# Altium schematic symbol library LIS2DH.SchLib: 1 symbol
Pins are listed as number, name and electrical type; pins without a type are passive.

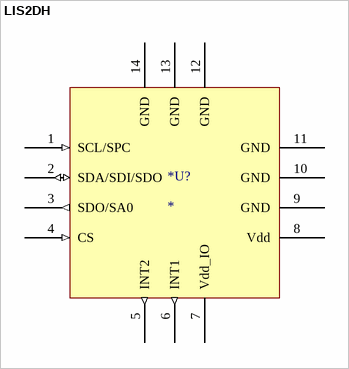
[diagram p0: symbol LIS2DH]

## LIS2DH
designator *U?
LIS2DH
footprint LIS2DH (14 Pin LGA)
footprint LIS2DH (14 Pin LGA)
footprint LGA 16 EI
pins: 1 SCL/SPC (in), 2 SDA/SDI/SDO (io), 3 SDO/SA0 (out), 4 CS (in), 5 INT2 (out), 6 INT1 (out), 7 Vdd_IO (power), 8 Vdd (power), 9 GND (power), 10 GND (power), 11 GND (power), 12 GND (power), 13 GND (power), 14 GND (power)